# Altium footprint library Ultrasonic Header.PcbLib: 1 footprints
Each footprint in its own frame and in the unit in brackets; x right, y up, seen from the top. Pads: shape width x height; smd on the part's side, far side on the other; paste and mask are expansions set on the pad; w line width, h text height; cw(c..) or ccw(c..) is an arc to the next point about the centre after c.
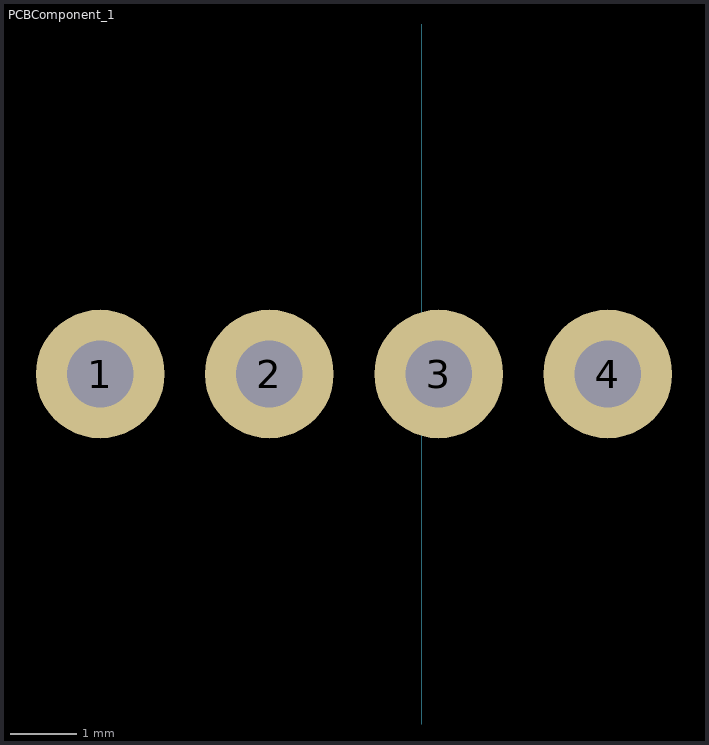
[diagram p0: the footprint, top view; thin cyan lines are the x and y axes]

## PCBComponent_1 [mil]
pads (4):
  round 76 hole 39.37: 1(-190,230) 2(-90,230) 3(10,230) 4(110,230)
Mechanical 7:
  text "TRIG" at 5,175 h27.2
  text "ECHO" at -100,165 h27.2
  text "VCC" at 100,165 h27.2
  text "GND" at -205,170 h27.2